# Altium footprint library USB-B-G-SMD.PcbLib: 1 footprints
Each footprint in its own frame and in the unit in brackets; x right, y up, seen from the top. Pads: shape width x height; smd on the part's side, far side on the other; paste and mask are expansions set on the pad; w line width, h text height; cw(c..) or ccw(c..) is an arc to the next point about the centre after c.
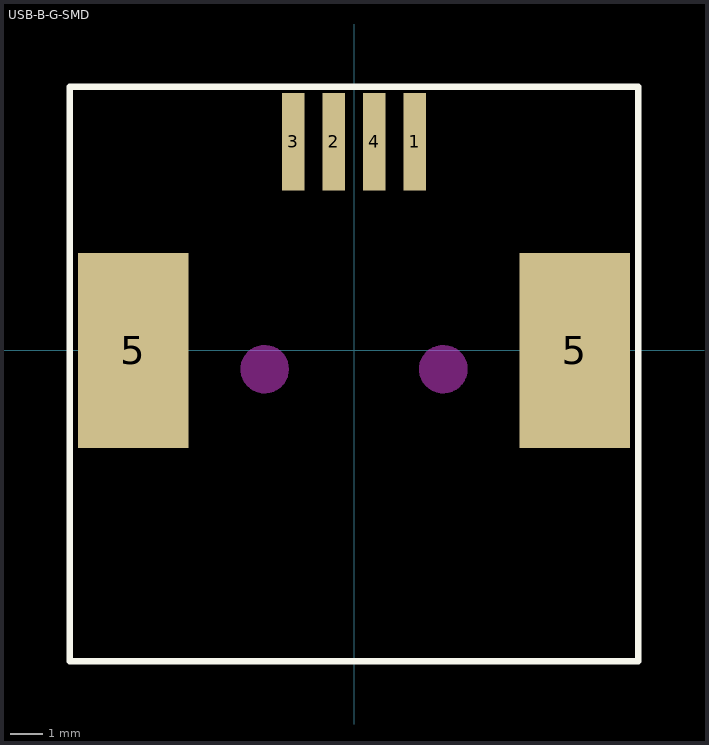
[diagram p0: the footprint, top view; thin cyan lines are the x and y axes]

## USB-B-G-SMD [mm] "1734346-1"
pads (6):
  rect 0.7x3 smd mask+0.015: 1(1.875,6.425) 2(-0.625,6.425) 3(-1.875,6.425) 4(0.625,6.425)
  rect 3.4x6 smd mask+0.015: 5(-6.8,0) 5(6.8,0)
Top Overlay:
  lines w0.2: -8.75,-9.575 -8.75,8.125 8.75,8.125 8.75,-9.575 -8.75,-9.575
Keep-Out Layer:
  board cut-out: 2.75,-1.275 2.681,-1.275 2.546,-1.248 2.418,-1.195 2.304,-1.119 2.206,-1.021 2.13,-0.907 2.077,-0.779 2.05,-0.644 2.05,-0.575 2.05,-0.506 2.077,-0.371 2.13,-0.243 2.206,-0.129 2.304,-0.031 2.418,0.045 2.546,0.098 2.681,0.125 2.75,0.125 2.819,0.125 2.954,0.098 3.082,0.045 3.196,-0.031 3.294,-0.129 3.37,-0.243 3.423,-0.371 3.45,-0.506 3.45,-0.575 3.45,-0.644 3.423,-0.779 3.37,-0.907 3.294,-1.021 3.196,-1.119 3.082,-1.195 2.954,-1.248 2.819,-1.275
  board cut-out: -2.75,-1.275 -2.819,-1.275 -2.954,-1.248 -3.082,-1.195 -3.196,-1.119 -3.294,-1.021 -3.37,-0.907 -3.423,-0.779 -3.45,-0.644 -3.45,-0.575 -3.45,-0.506 -3.423,-0.371 -3.37,-0.243 -3.294,-0.129 -3.196,-0.031 -3.082,0.045 -2.954,0.098 -2.819,0.125 -2.75,0.125 -2.681,0.125 -2.546,0.098 -2.418,0.045 -2.304,-0.031 -2.206,-0.129 -2.13,-0.243 -2.077,-0.371 -2.05,-0.506 -2.05,-0.575 -2.05,-0.644 -2.077,-0.779 -2.13,-0.907 -2.206,-1.021 -2.304,-1.119 -2.418,-1.195 -2.546,-1.248 -2.681,-1.275
Keep-Out Layer:
  circle w0.1: c2.75,-0.575 r0.7
  circle w0.1: c-2.75,-0.575 r0.7
Top Assembly:
  lines w0.1: -8.75,-9.575 -8.75,8.125 8.75,8.125 8.75,-9.575 -8.75,-9.575
  text "'.Designator'" at -0.6,1.312 h0.7
3D body "User Library-c-1734346-1-c-3d_color.step": height 11.21, standoff -1.21, extent -8.25,-9.55 8.25,7.55